# Altium footprint library DFN-6_DCB.PcbLib: 1 footprints
Each footprint in its own frame and in the unit in brackets; x right, y up, seen from the top. Pads: shape width x height; smd on the part's side, far side on the other; paste and mask are expansions set on the pad; w line width, h text height; cw(c..) or ccw(c..) is an arc to the next point about the centre after c.
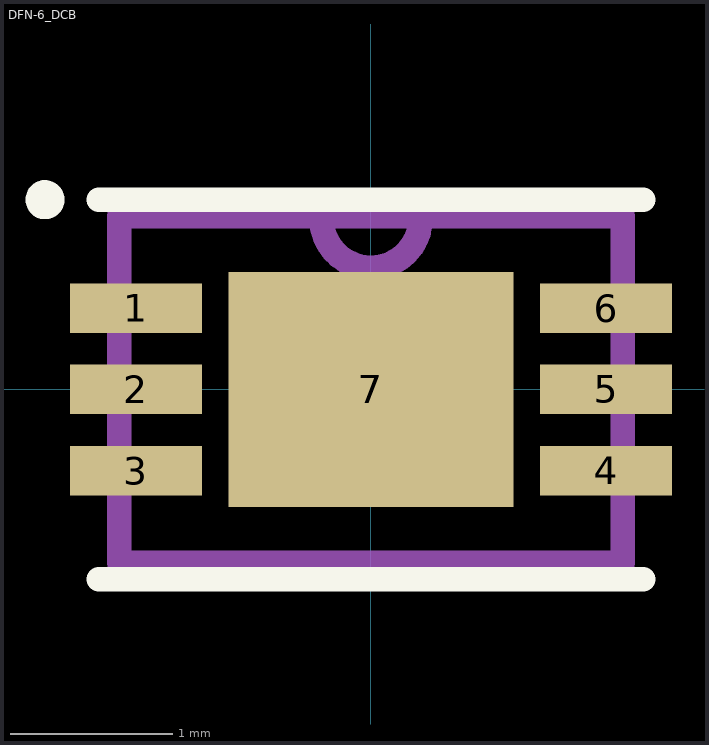
[diagram p0: the footprint, top view; thin cyan lines are the x and y axes]

## DFN-6_DCB [mil]
pads (7):
  rect 32x12 smd mask+2: 1(-57,19.68) 2(-57,0) 3(-57,-19.68) 4(57,-19.68) 5(57,0) 6(57,19.68)
  rect 69x57 smd mask+0: 7(0,0)
Top Overlay:
  circle w5: c-79,46 r2.24
  lines w6: -66,-46 66,-46 ; -66,46 66,46
Mechanical 13:
  lines w6: -12,41.08 ccw(c0,41.5) 12,41.92 ; -61,-42 -61,42 12,42 61,42 61,-42 -61,-42
3D body "step_temp.STEP": height 31.5, standoff 0, extent -59.06,-39.37 59.06,39.37